# Altium schematic symbol library IC_IO_EXPANDER_SPI_20SOP.SchLib: 1 symbol
Pins are listed as number, name and electrical type; pins without a type are passive.

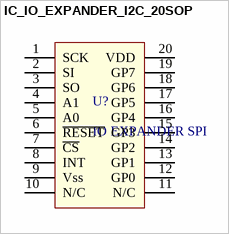
[diagram p0: symbol IC_IO_EXPANDER_I2C_20SOP]

## IC_IO_EXPANDER_I2C_20SOP
designator U?, comment IO EXPANDER SPI
IC I/O EXPANDER SPI 8B 20SOP; Supplier 1: Digi-Key; Supplier Part Number 1: MCP23S08T-E/SOCT-ND
footprint IC_EXPANDER_SPI_20SOP (SOP, 20-Leads, Body 7.20x5.30mm, Pitch 0.65mm, IPC Low Density)
pins: 1 SCK, 2 SI, 3 SO, 4 A1, 5 A0, 6 ~{RESET}, 7 ~{CS}, 8 INT, 9 Vss, 10 N/C, 11 N/C, 12 GP0, 13 GP1, 14 GP2, 15 GP3, 16 GP4, 17 GP5, 18 GP6, 19 GP7, 20 VDD